# Altium footprint library PcbLib1.PcbLib: 9 footprints
Each footprint in its own frame and in the unit in brackets; x right, y up, seen from the top. Pads: shape width x height; smd on the part's side, far side on the other; paste and mask are expansions set on the pad; w line width, h text height; cw(c..) or ccw(c..) is an arc to the next point about the centre after c.
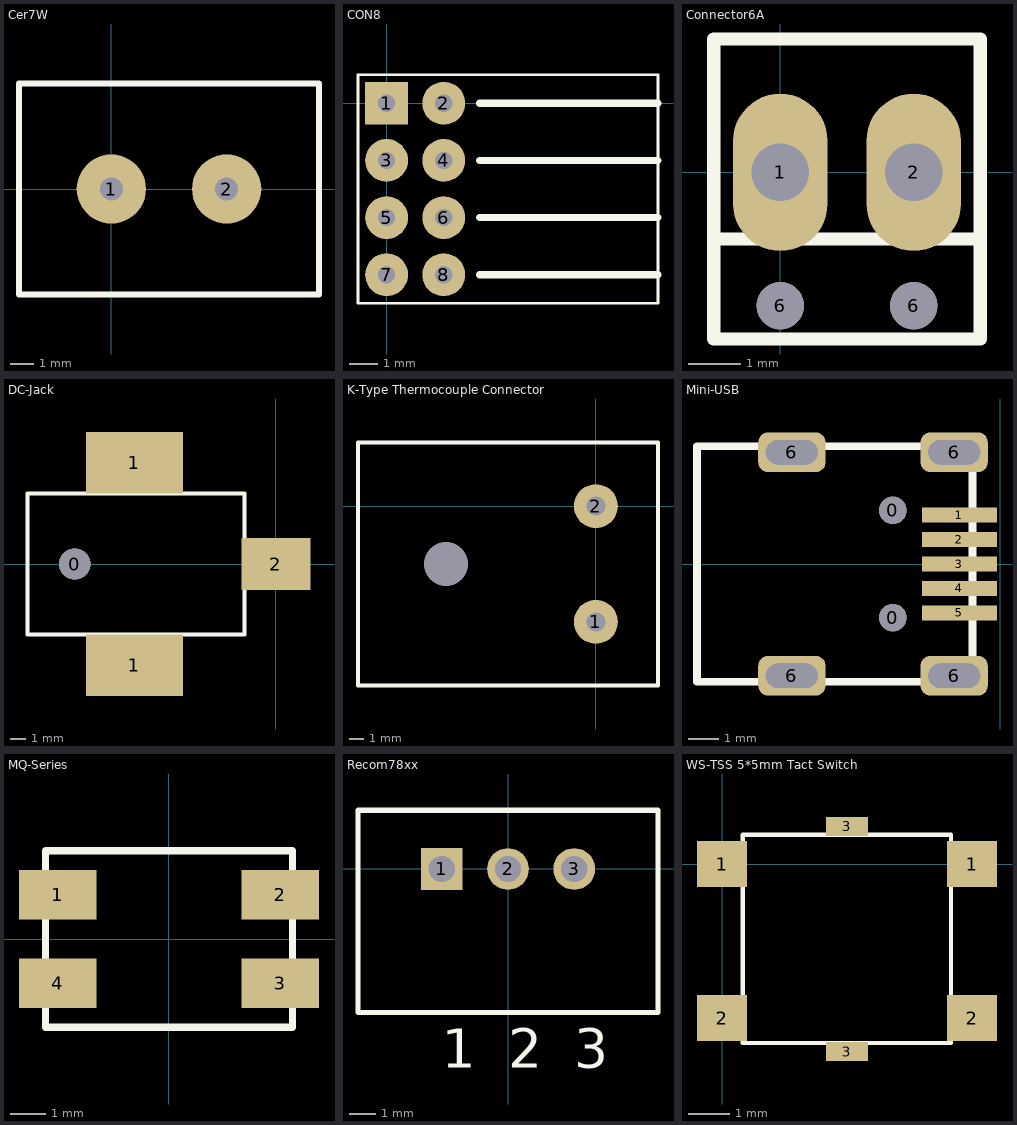
[diagram p0: the footprints below, top view; thin cyan lines are the x and y axes]

## Cer7W [mm]
pads (2):
  round 3 hole 1: 1(0,0) 2(5,0)
Top Overlay:
  lines w0.254: -4,-4.572 -4,4.572 9,4.572 9,1 9,-4.572 -4,-4.572

## CON8 [mm]
pads (8):
  rect 1.5x1.5 hole 0.6: 1(0,0)
  round 1.5 hole 0.6: 2(2,0) 3(0,-2) 4(2,-2) 5(0,-4) 6(2,-4) 7(0,-6) 8(2,-6)
Top Overlay:
  lines w0.1: -1,-7 -1,1 9.5,1 9.5,-7 -1,-7
  lines w0.254: 3.25,-6 9.5,-6 ; 3.25,-4 9.5,-4 ; 3.25,-2 9.5,-2 ; 3.25,0 9.5,0

## Connector6A [mm]
pads (4):
  oval 1.8x3 hole 1.1: 1(0,0) 2(2.54,0)
  round 0.9 hole 0.9 paste+0 mask+0: 6(0,-2.54) 6(2.54,-2.54)
Top Overlay:
  lines w0.254: -1.27,-1.27 3.81,-1.27 3.81,-3.175 -1.27,-3.175 -1.27,2.54 3.81,2.54 3.81,-2.54

## DC-Jack [mm]
pads (4):
  round 2 hole 2 paste+0 mask+0: 0(-12.8,0)
  rect 6.2x3.9 smd: 1(-9,-6.45) 1(-9,6.45)
  rect 4.4x3.3 smd: 2(0,0)
Top Overlay:
  lines w0.254: -15.8,-4.5 -2,-4.5 -2,4.5 -15.8,4.5 -15.8,-4.5

## K-Type Thermocouple Connector [mm]
pads (3):
  round 3 hole 1.3: 1(0,-7.9) 2(0,0)
  round 0 hole 3 unplated: 3(-10.25,-3.95)
Top Overlay:
  lines w0.254: 4.225,-12.25 0,-12.25 -16.25,-12.25 -16.25,4.35 -0.025,4.35 4.25,4.35 4.25,-12.25

## Mini-USB [mm] "Molex  67503-1340"
pads (11):
  round 0.9 hole 0.9 paste+0 mask+0: 0(-3.5,-1.75) 0(-3.5,1.75)
  rect 2.45x0.5 smd: 1(-1.325,1.6) 2(-1.325,0.8) 3(-1.325,0) 4(-1.325,-0.8) 5(-1.325,-1.6)
  rrect50% 2.2x1.3 hole 0.8 slot 1.7 at 0 deg: 6(-6.8,-3.65) 6(-6.8,3.65) 6(-1.5,-3.65) 6(-1.5,3.65)
Top Overlay:
  lines w0.254: -9.9,-3.85 -9.9,3.85 -0.9,3.85 -0.9,-3.85 -9.9,-3.85

## MQ-Series [mm]
pads (4):
  rect 2.2x1.4 smd: 1(-3.15,1.25) 2(3.15,1.25) 3(3.15,-1.25) 4(-3.15,-1.25)
Top Overlay:
  lines w0.2: -3.5,-2.5 -3.5,2.5 3.5,2.5 3.5,-2.5 -3.5,-2.5

## Recom78xx [mm]
pads (3):
  rect 1.6x1.6 hole 1: 1(-2.54,0)
  round 1.6 hole 1: 2(0,0) 3(2.54,0)
Top Overlay:
  lines w0.2: -5.75,-5.5 5.75,-5.5 5.75,2.25 -5.75,2.25 -5.75,-5.5
  text "1" at -2.54,-7.62 h1.5
  text "2" at 0,-7.62 h1.5
  text "3" at 2.54,-7.62 h1.5

## WS-TSS 5*5mm Tact Switch [mm]
height 1.5
pads (6):
  rect 1.2x1.1 smd: 1(0,0) 1(6,0) 2(0,-3.7) 2(6,-3.7)
  rect 1x0.45 smd: 3(3,-4.5) 3(3,0.9)
Top Overlay:
  lines w0.1: 0.5,-4.3 5.5,-4.3 5.5,0.7 0.5,0.7 0.5,-4.3